# Altium integrated library Integrated_Library1.IntLib: 2483 symbols (part 13 of 13)
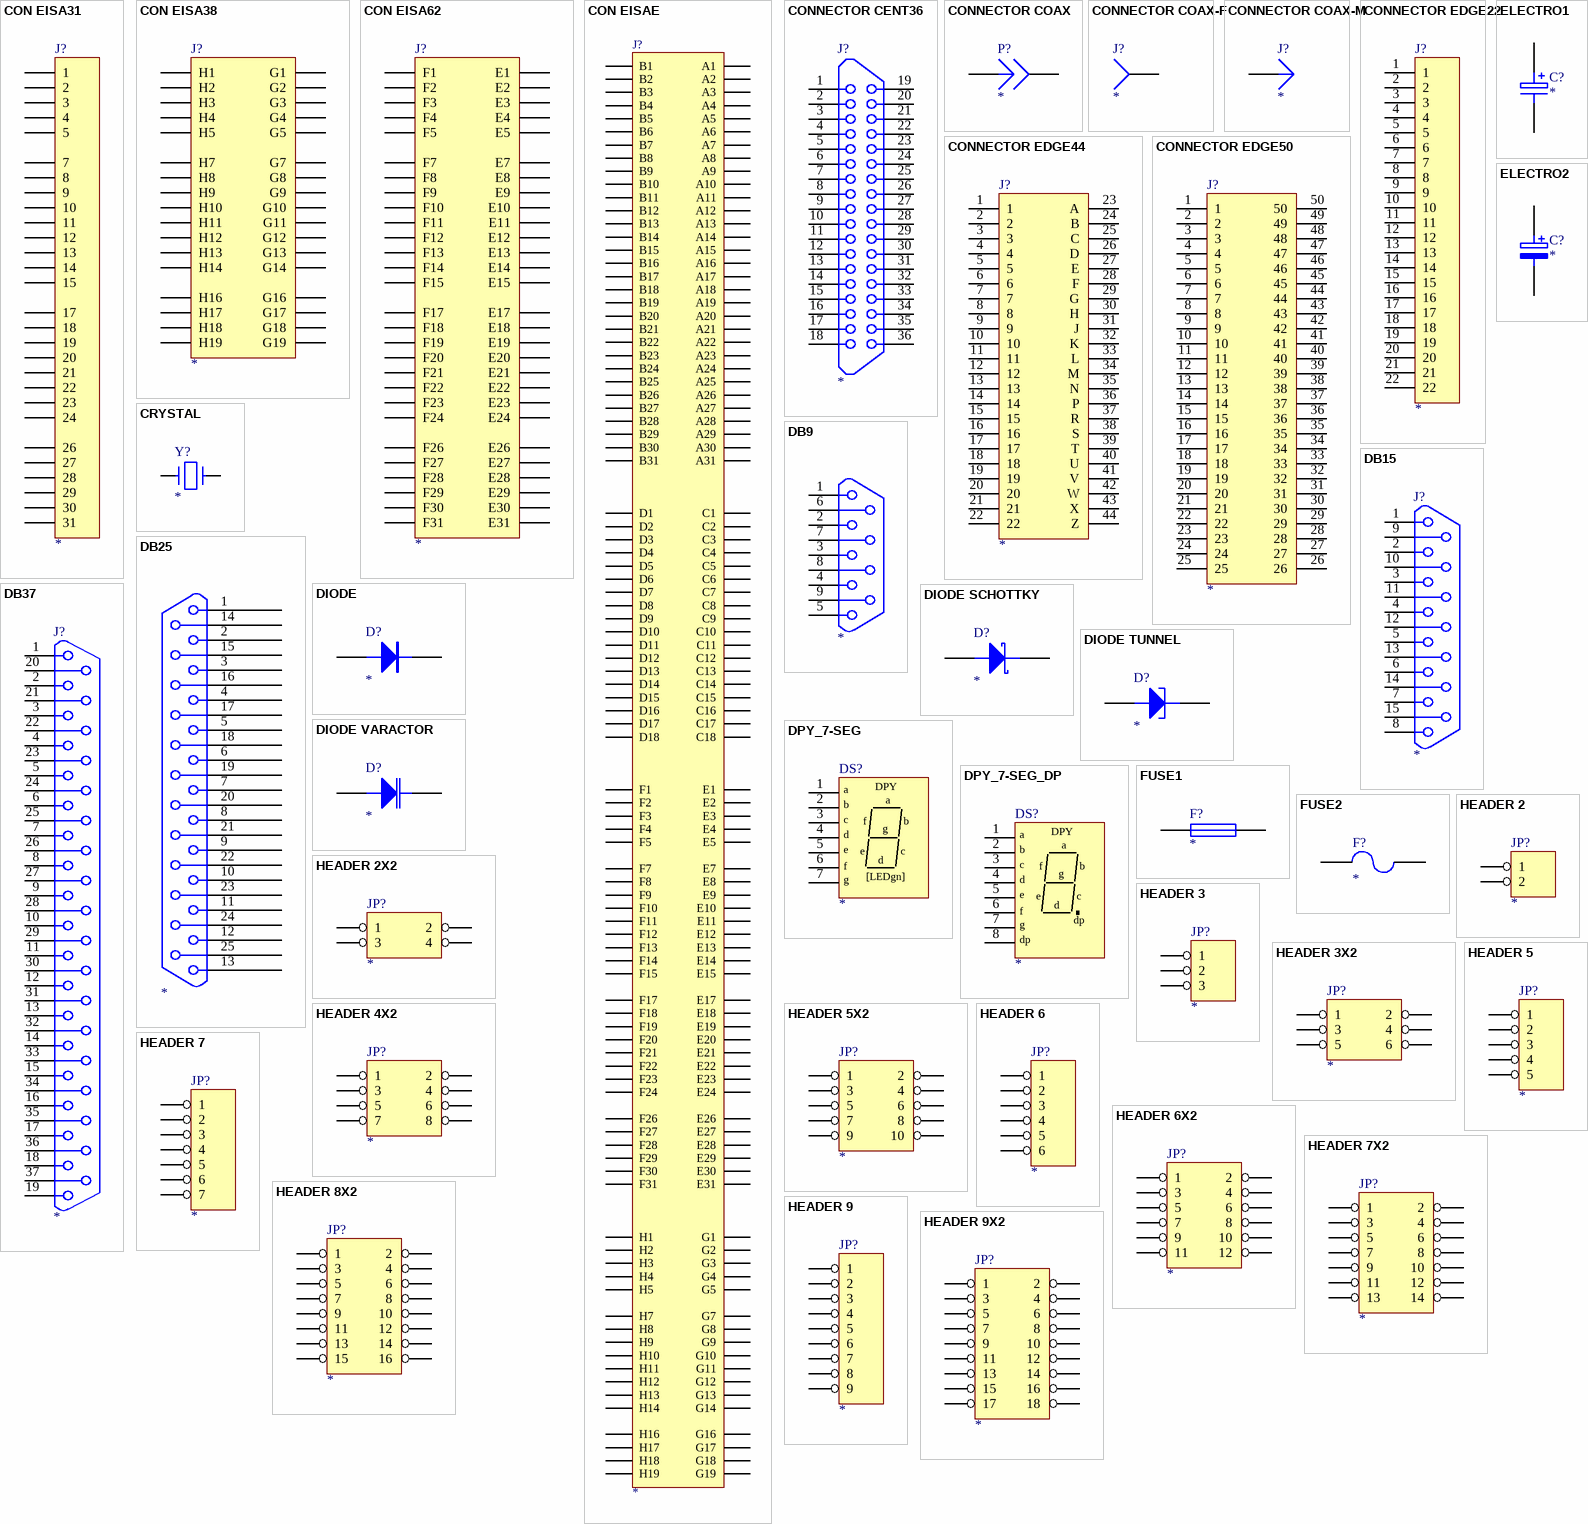
[diagram p120: symbols CON EISA31 to HEADER 9X2]

## CONNECTOR CENT36
designator J?
pins: 1, 2, 3, 4, 5, 6, 7, 8, 9, 10, 11, 12, 13, 14, 15, 16, 17, 18, 19, 20, 21, 22, 23, 24, 25, 26, 27, 28, 29, 30, 31, 32, 33, 34, 35, 36

## CONNECTOR COAX
designator P?
pins: A, B

## CONNECTOR COAX-F
designator J?
pins: A

## CONNECTOR COAX-M
designator J?
pins: A

## CONNECTOR EDGE22
designator J?
pins: 1, 2, 3, 4, 5, 6, 7, 8, 9, 10, 11, 12, 13, 14, 15, 16, 17, 18, 19, 20, 21, 22

## CONNECTOR EDGE44
designator J?
pins: 1, 2, 3, 4, 5, 6, 7, 8, 9, 10, 11, 12, 13, 14, 15, 16, 17, 18, 19, 20, 21, 22, 23 A, 24 B, 25 C, 26 D, 27 E, 28 F, 29 G, 30 H, 31 J, 32 K, 33 L, 34 M, 35 N, 36 P, 37 R, 38 S, 39 T, 40 U, 41 V, 42 W, 43 X, 44 Z

## CONNECTOR EDGE50
designator J?
pins: 1, 2, 3, 4, 5, 6, 7, 8, 9, 10, 11, 12, 13, 14, 15, 16, 17, 18, 19, 20, 21, 22, 23, 24, 25, 26, 27, 28, 29, 30, 31, 32, 33, 34, 35, 36, 37, 38, 39, 40, 41, 42, 43, 44, 45, 46, 47, 48, 49, 50

## CRYSTAL
designator Y?
Crystal
pins: 1, 2

## DB9
designator ?
footprint DB9M
pins: 1, 2, 3, 4, 5, 6, 7, 8, 9

## DB15
designator J?
footprint DB-15/M
pins: 1, 2, 3, 4, 5, 6, 7, 8, 9, 10, 11, 12, 13, 14, 15

## DB25
designator ?
footprint DB-25/M
footprint DB25Z
pins: 1, 2, 3, 4, 5, 6, 7, 8, 9, 10, 11, 12, 13, 14, 15, 16, 17, 18, 19, 20, 21, 22, 23, 24, 25

## DB37
designator J?
footprint DB-37/M
pins: 1, 2, 3, 4, 5, 6, 7, 8, 9, 10, 11, 12, 13, 14, 15, 16, 17, 18, 19, 20, 21, 22, 23, 24, 25, 26, 27, 28, 29, 30, 31, 32, 33, 34, 35, 36, 37

## DIODE
designator D?
Diode
pins: 1 A, 2 K

## DIODE SCHOTTKY
designator D?
Schottky Diode
pins: 1 A, 2 K

## DIODE TUNNEL
designator D?
Diode Tunnel
pins: 1 A, 2 K

## DIODE VARACTOR
designator D?
Varactor Diode
pins: 1 A, 2 K

## DPY_7-SEG
designator DS?
Seven-Segment Display
pins: 1 a, 2 b, 3 c, 4 d, 5 e, 6 f, 7 g
text: DPY; [LEDgn]

## DPY_7-SEG_DP
designator DS?
Seven-Segment Display, Right Hand Decimal
pins: 1 a, 2 b, 3 c, 4 d, 5 e, 6 f, 7 g, 8 dp
text: DPY

## ELECTRO1
designator C?
Electrolytic Capacitor
pins: 1, 2

## ELECTRO2
designator C?
Electrolytic Capacitor
pins: 1, 2

## FUSE1
designator F?
Fuse
pins: 1, 2

## FUSE2
designator F?
Fuse
pins: 1, 2

## HEADER 2
designator JP?
pins: 1, 2

## HEADER 2X2
designator JP?
pins: 1, 2, 3, 4

## HEADER 3
designator JP?
pins: 1, 2, 3

## HEADER 3X2
designator JP?
pins: 1, 2, 3, 4, 5, 6

## HEADER 4X2
designator JP?
pins: 1, 2, 3, 4, 5, 6, 7, 8

## HEADER 5
designator JP?
pins: 1, 2, 3, 4, 5

## HEADER 5X2
designator JP?
pins: 1, 2, 3, 4, 5, 6, 7, 8, 9, 10

## HEADER 6
designator JP?
pins: 1, 2, 3, 4, 5, 6

## HEADER 6X2
designator JP?
pins: 1, 2, 3, 4, 5, 6, 7, 8, 9, 10, 11, 12

## HEADER 7
designator JP?
pins: 1, 2, 3, 4, 5, 6, 7

## HEADER 7X2
designator JP?
pins: 1, 2, 3, 4, 5, 6, 7, 8, 9, 10, 11, 12, 13, 14

## HEADER 8X2
designator JP?
pins: 1, 2, 3, 4, 5, 6, 7, 8, 9, 10, 11, 12, 13, 14, 15, 16

## HEADER 9
designator JP?
pins: 1, 2, 3, 4, 5, 6, 7, 8, 9

## HEADER 9X2
designator JP?
pins: 1, 2, 3, 4, 5, 6, 7, 8, 9, 10, 11, 12, 13, 14, 15, 16, 17, 18

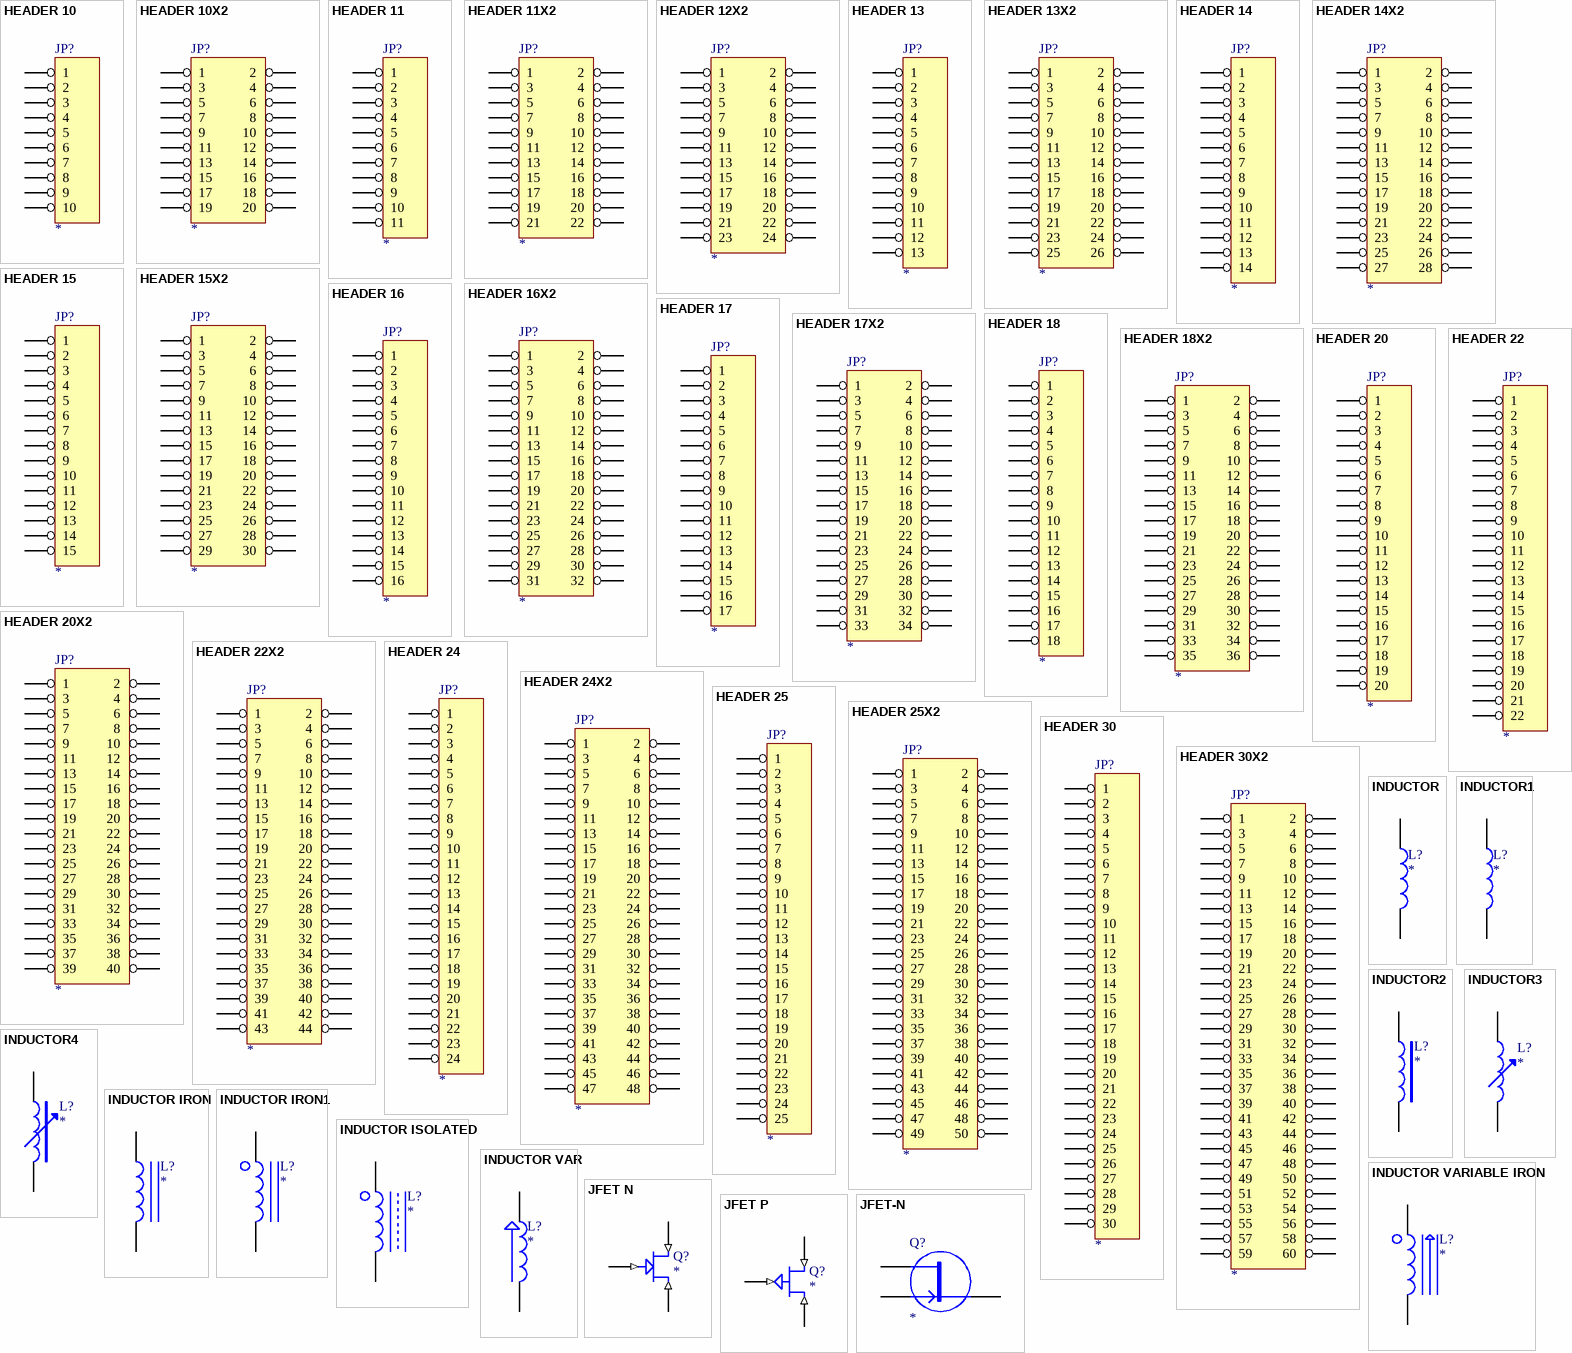
[diagram p100: symbols HEADER 10 to JFET-N]

## HEADER 10
designator JP?
pins: 1, 2, 3, 4, 5, 6, 7, 8, 9, 10

## HEADER 10X2
designator JP?
pins: 1, 2, 3, 4, 5, 6, 7, 8, 9, 10, 11, 12, 13, 14, 15, 16, 17, 18, 19, 20

## HEADER 11
designator JP?
pins: 1, 2, 3, 4, 5, 6, 7, 8, 9, 10, 11

## HEADER 11X2
designator JP?
pins: 1, 2, 3, 4, 5, 6, 7, 8, 9, 10, 11, 12, 13, 14, 15, 16, 17, 18, 19, 20, 21, 22

## HEADER 12X2
designator JP?
pins: 1, 2, 3, 4, 5, 6, 7, 8, 9, 10, 11, 12, 13, 14, 15, 16, 17, 18, 19, 20, 21, 22, 23, 24

## HEADER 13
designator JP?
pins: 1, 2, 3, 4, 5, 6, 7, 8, 9, 10, 11, 12, 13

## HEADER 13X2
designator JP?
pins: 1, 2, 3, 4, 5, 6, 7, 8, 9, 10, 11, 12, 13, 14, 15, 16, 17, 18, 19, 20, 21, 22, 23, 24, 25, 26

## HEADER 14
designator JP?
pins: 1, 2, 3, 4, 5, 6, 7, 8, 9, 10, 11, 12, 13, 14

## HEADER 14X2
designator JP?
pins: 1, 2, 3, 4, 5, 6, 7, 8, 9, 10, 11, 12, 13, 14, 15, 16, 17, 18, 19, 20, 21, 22, 23, 24, 25, 26, 27, 28

## HEADER 15
designator JP?
pins: 1, 2, 3, 4, 5, 6, 7, 8, 9, 10, 11, 12, 13, 14, 15

## HEADER 15X2
designator JP?
pins: 1, 2, 3, 4, 5, 6, 7, 8, 9, 10, 11, 12, 13, 14, 15, 16, 17, 18, 19, 20, 21, 22, 23, 24, 25, 26, 27, 28, 29, 30

## HEADER 16
designator JP?
pins: 1, 2, 3, 4, 5, 6, 7, 8, 9, 10, 11, 12, 13, 14, 15, 16

## HEADER 16X2
designator JP?
pins: 1, 2, 3, 4, 5, 6, 7, 8, 9, 10, 11, 12, 13, 14, 15, 16, 17, 18, 19, 20, 21, 22, 23, 24, 25, 26, 27, 28, 29, 30, 31, 32

## HEADER 17
designator JP?
pins: 1, 2, 3, 4, 5, 6, 7, 8, 9, 10, 11, 12, 13, 14, 15, 16, 17

## HEADER 17X2
designator JP?
pins: 1, 2, 3, 4, 5, 6, 7, 8, 9, 10, 11, 12, 13, 14, 15, 16, 17, 18, 19, 20, 21, 22, 23, 24, 25, 26, 27, 28, 29, 30, 31, 32, 33, 34

## HEADER 18
designator JP?
pins: 1, 2, 3, 4, 5, 6, 7, 8, 9, 10, 11, 12, 13, 14, 15, 16, 17, 18

## HEADER 18X2
designator JP?
pins: 1, 2, 3, 4, 5, 6, 7, 8, 9, 10, 11, 12, 13, 14, 15, 16, 17, 18, 19, 20, 21, 22, 23, 24, 25, 26, 27, 28, 29, 30, 31, 32, 33, 34, 35, 36

## HEADER 20
designator JP?
pins: 1, 2, 3, 4, 5, 6, 7, 8, 9, 10, 11, 12, 13, 14, 15, 16, 17, 18, 19, 20

## HEADER 20X2
designator JP?
pins: 1, 2, 3, 4, 5, 6, 7, 8, 9, 10, 11, 12, 13, 14, 15, 16, 17, 18, 19, 20, 21, 22, 23, 24, 25, 26, 27, 28, 29, 30, 31, 32, 33, 34, 35, 36, 37, 38, 39, 40

## HEADER 22
designator JP?
pins: 1, 2, 3, 4, 5, 6, 7, 8, 9, 10, 11, 12, 13, 14, 15, 16, 17, 18, 19, 20, 21, 22

## HEADER 22X2
designator JP?
pins: 1, 2, 3, 4, 5, 6, 7, 8, 9, 10, 11, 12, 13, 14, 15, 16, 17, 18, 19, 20, 21, 22, 23, 24, 25, 26, 27, 28, 29, 30, 31, 32, 33, 34, 35, 36, 37, 38, 39, 40, 41, 42, 43, 44

## HEADER 24
designator JP?
pins: 1, 2, 3, 4, 5, 6, 7, 8, 9, 10, 11, 12, 13, 14, 15, 16, 17, 18, 19, 20, 21, 22, 23, 24

## HEADER 24X2
designator JP?
pins: 1, 2, 3, 4, 5, 6, 7, 8, 9, 10, 11, 12, 13, 14, 15, 16, 17, 18, 19, 20, 21, 22, 23, 24, 25, 26, 27, 28, 29, 30, 31, 32, 33, 34, 35, 36, 37, 38, 39, 40, 41, 42, 43, 44, 45, 46, 47, 48

## HEADER 25
designator JP?
pins: 1, 2, 3, 4, 5, 6, 7, 8, 9, 10, 11, 12, 13, 14, 15, 16, 17, 18, 19, 20, 21, 22, 23, 24, 25

## HEADER 25X2
designator JP?
pins: 1, 2, 3, 4, 5, 6, 7, 8, 9, 10, 11, 12, 13, 14, 15, 16, 17, 18, 19, 20, 21, 22, 23, 24, 25, 26, 27, 28, 29, 30, 31, 32, 33, 34, 35, 36, 37, 38, 39, 40, 41, 42, 43, 44, 45, 46, 47, 48, 49, 50

## HEADER 30
designator JP?
pins: 1, 2, 3, 4, 5, 6, 7, 8, 9, 10, 11, 12, 13, 14, 15, 16, 17, 18, 19, 20, 21, 22, 23, 24, 25, 26, 27, 28, 29, 30

## HEADER 30X2
designator JP?
pins: 1, 2, 3, 4, 5, 6, 7, 8, 9, 10, 11, 12, 13, 14, 15, 16, 17, 18, 19, 20, 21, 22, 23, 24, 25, 26, 27, 28, 29, 30, 31, 32, 33, 34, 35, 36, 37, 38, 39, 40, 41, 42, 43, 44, 45, 46, 47, 48, 49, 50, 51, 52, 53, 54, 55, 56, 57, 58, 59, 60

## INDUCTOR
designator L?
pins: 1, 2

## INDUCTOR1
designator L?
pins: 1, 2

## INDUCTOR2
designator L?
pins: 1, 2

## INDUCTOR3
designator L?
pins: 1, 2

## INDUCTOR4
designator L?
pins: 1, 2

## INDUCTOR IRON
designator L?
pins: 1, 2

## INDUCTOR IRON1
designator L?
pins: 1, 2

## INDUCTOR ISOLATED
designator L?
pins: 1, 2

## INDUCTOR VAR
designator L?
pins: 1, 2

## INDUCTOR VARIABLE IRON
designator L?
pins: 1, 2

## JFET N
designator Q?
pins: 1 G (in), 2 D (in), 3 S (in)

## JFET P
designator Q?
pins: 1 G (in), 2 D (in), 3 S (in)

## JFET-N
designator Q?
pins: 1 D, 2 G, 3 S

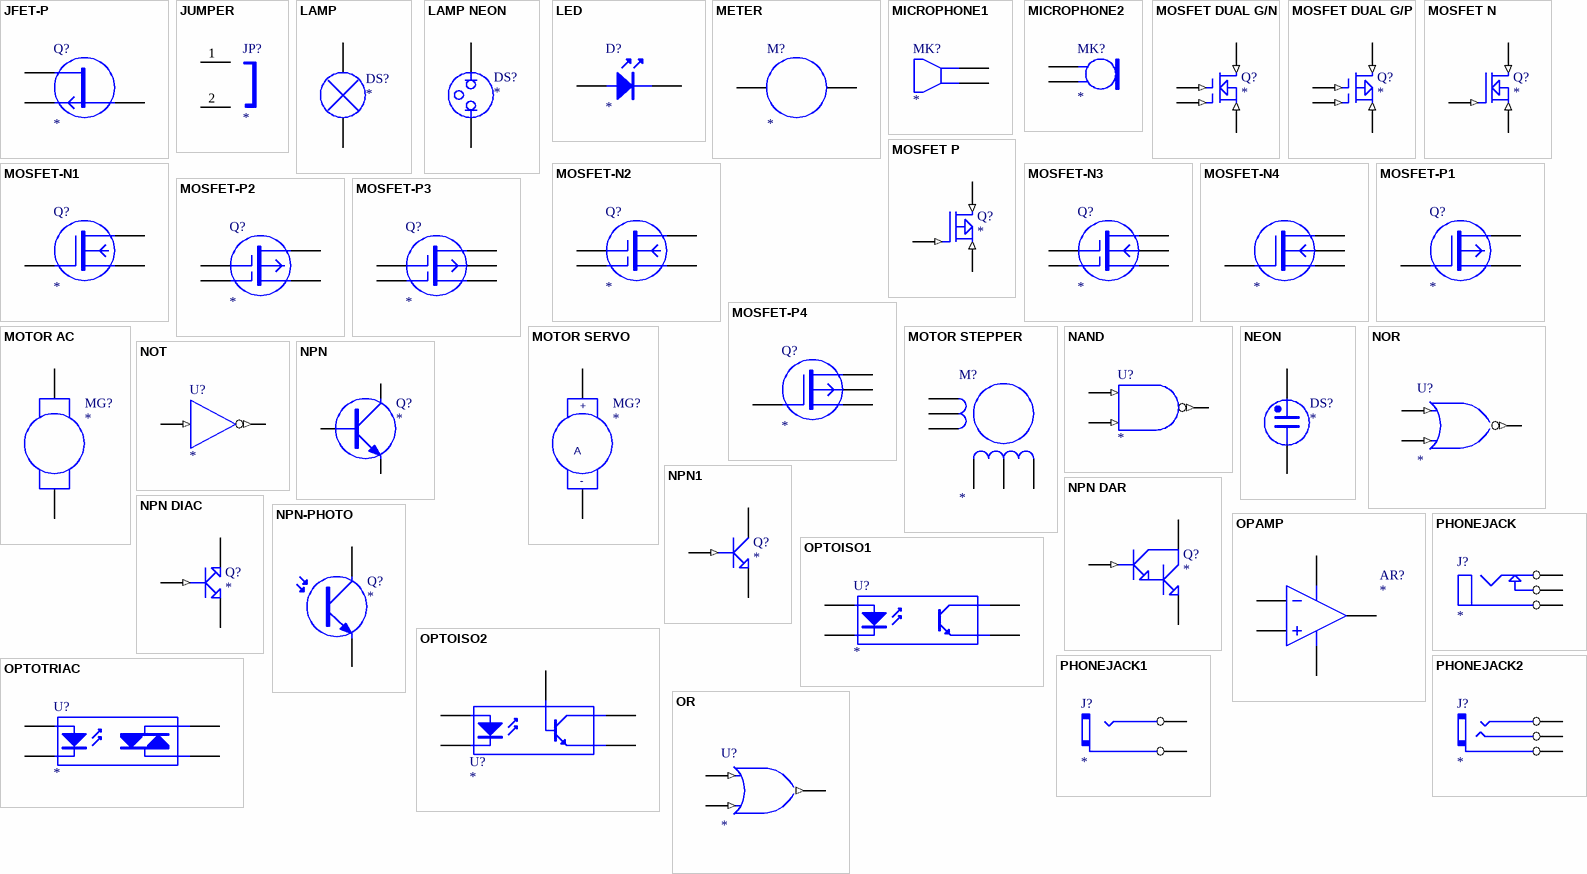
[diagram p101: symbols JFET-P to PHONEJACK2]

## JFET-P
designator Q?
pins: 1 D, 2 G, 3 S

## JUMPER
designator JP?
Jumper
footprint RAD0.2
pins: 1, 2

## LAMP
designator DS?
pins: 1, 2

## LAMP NEON
designator DS?
pins: 1, 2

## LED
designator D?
pins: A 1, K 2

## METER
designator M?
pins: 1, 2

## MICROPHONE1
designator MK?
Microphone
pins: 1, 2

## MICROPHONE2
designator MK?
Microphone
pins: 1, 2

## MOSFET DUAL G/N
designator Q?
pins: 1 G1 (in), 2 G2 (in), 3 D (in), 4 S (in)

## MOSFET DUAL G/P
designator Q?
pins: 1 G1 (in), 2 G2 (in), 3 D (in), 4 S (in)

## MOSFET N
designator Q?
pins: 1 G (in), 2 D (in), 3 S (in)

## MOSFET P
designator Q?
pins: 1 G (in), 2 D (in), 3 S (in)

## MOSFET-N1
designator Q?
pins: 1 G, 2 D, 3 S

## MOSFET-N2
designator Q?
pins: 1 G1, 2 G2, 3 D, 4 S

## MOSFET-N3
designator Q?
pins: 1 G1, 2 G2, 3 D, 4 U, 5 S

## MOSFET-N4
designator ?
pins: 1 G, 2 D, 3 U, 4 S

## MOSFET-P1
designator Q?
pins: 1 G, 2 D, 3 S

## MOSFET-P2
designator Q?
pins: 1 G1, 2 G2, 3 D, 4 S

## MOSFET-P3
designator Q?
pins: 1 G1, 2 G2, 3 D, 4 U, 5 S

## MOSFET-P4
designator Q?
pins: 1 G, 2 D, 3 U, 4 S

## MOTOR AC
designator MG?
pins: 1, 2

## MOTOR SERVO
designator MG?
pins: 1 +, 2 -
text: A

## MOTOR STEPPER
designator M?
pins: 1, 2, 3, 4, 5, 6

## NAND
designator U?
NAND Gate
pins: 1 A (in), 2 B (in), 3 Y (out)

## NEON
designator DS?
pins: 1, 2

## NOR
designator U?
NOR Gate
pins: 1 A (in), 2 B (in), 3 Y (out)

## NOT
designator U?
Inverter
pins: 1 A (in), 2 Y (out)

## NPN
designator Q?
NPN Transistor
pins: 1 E, 2 B, 3 C

## NPN1
designator Q?
NPN Transistor
pins: 1 B (in), 2 C, 3 E

## NPN DAR
designator Q?
NPN Darlington Transistor
pins: 1 B (in), 2 C, 3 E

## NPN DIAC
designator Q?
pins: 1 B (in), 2 C, 3 E

## NPN-PHOTO
designator Q?
pins: 1 C, 2 E

## OPAMP
designator AR?
Operational Amplifier
pins: 1 IN-, 2 IN+, 3 OUT, 4 V+, 5 V-

## OPTOISO1
designator U?
Optoisolator
pins: 1 A, 2 K, 3 C, 4 E

## OPTOISO2
designator U?
Optoisolator
pins: 1 A, 2 K, 3 B, 4 C, 5 E

## OPTOTRIAC
designator U?
pins: 1 A, 2 K, 3 A/K, 4 A/K

## OR
designator U?
OR Gate
pins: 1 A (in), 2 B (in), 3 Y (out)

## PHONEJACK
designator J?
pins: 1 A, 2 B, 3 C

## PHONEJACK1
designator J?
pins: 1 A, 2 B

## PHONEJACK2
designator J?
pins: 1 A, 2 B, 3 C

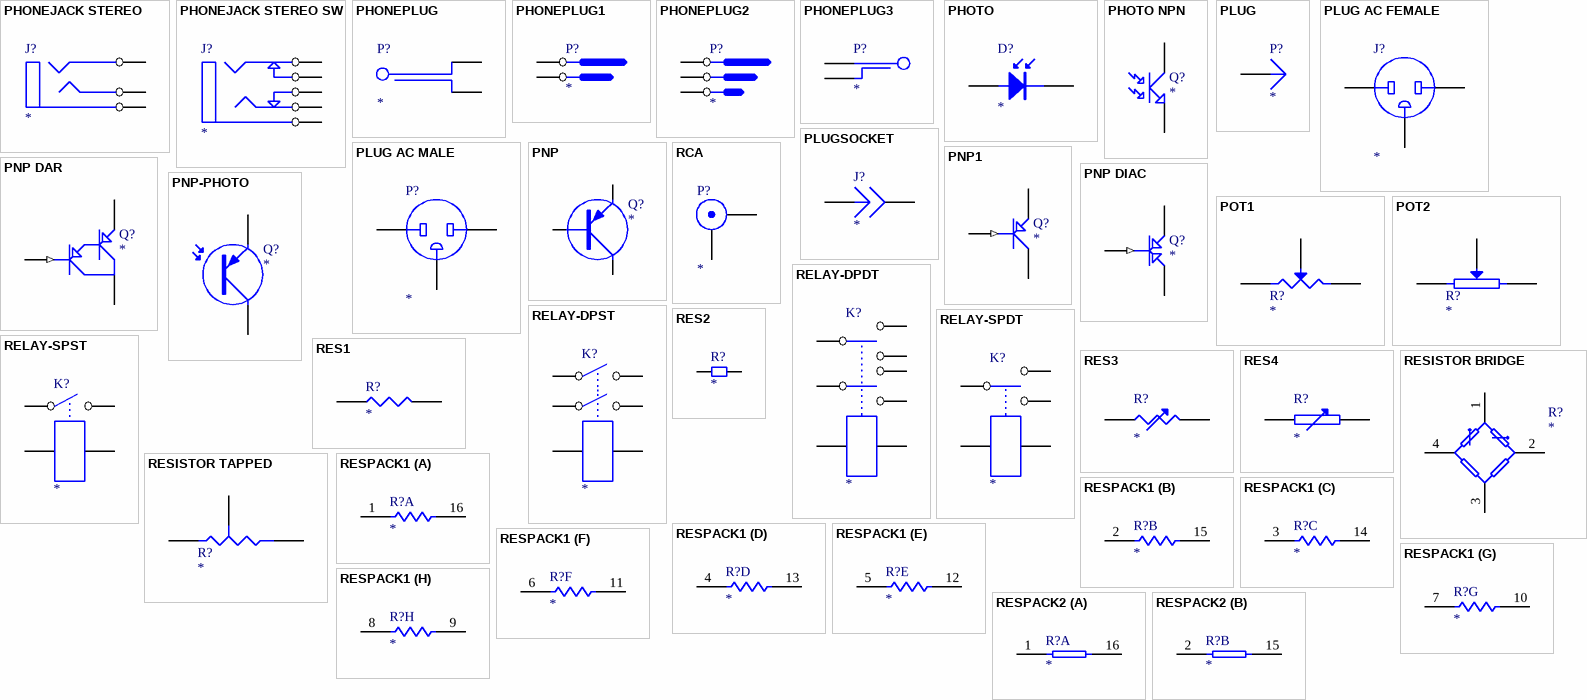
[diagram p102: symbols PHONEJACK STEREO to RESPACK2]

## PHONEJACK STEREO
designator J?
pins: 1 A, 2 B, 3 C

## PHONEJACK STEREO SW
designator J?
pins: 1 A, 2 B, 3 C, 4 D, 5 E

## PHONEPLUG
designator P?
pins: 1 A, 2 B

## PHONEPLUG1
designator P?
pins: 1 A, 2 B

## PHONEPLUG2
designator P?
pins: 1 A, 2 B, 3 C

## PHONEPLUG3
designator P?
pins: 1 A, 2 B

## PHOTO
designator D?
Photosensitive Diode
pins: 1 A, 2 K

## PHOTO NPN
designator Q?
NPN Phototransistor
pins: 1 C, 2 E

## PLUG
designator P?
pins: 1

## PLUG AC FEMALE
designator J?
pins: 1 A, 2 B, 3 GND

## PLUG AC MALE
designator P?
pins: 1 A, 2 B, 3 GND

## PLUGSOCKET
designator J?
pins: 1, 2

## PNP
designator Q?
PNP Transistor
pins: 1 E, 2 B, 3 C

## PNP1
designator Q?
PNP Transistor
pins: 1 B (in), 2 E, 3 C

## PNP DAR
designator Q?
PNP Darlington Transistor
pins: 1 B (in), 3 C, E 2

## PNP DIAC
designator Q?
pins: 1 B (in), 2 E, 3 C

## PNP-PHOTO
designator Q?
pins: C, E

## POT1
designator R?
Potentiometer
pins: 1, 2, 3 W

## POT2
designator R?
Potentiometer
pins: 1, 2, 3 W

## RCA
designator P?
RCA Connector
pins: 1 X, 2 Y

## RELAY-DPDT
designator K?
pins: 1, 2, 3, 4, 5, 6, 7, 8

## RELAY-DPST
designator K?
pins: 1, 2, 3, 4, 5, 6

## RELAY-SPDT
designator K?
pins: 1, 2, 3, 4, 5

## RELAY-SPST
designator K?
pins: 1, 2, 3, 4

## RES1
designator R?
pins: 1, 2

## RES2
designator R?
pins: 1, 2

## RES3
designator R?
pins: 1, 2

## RES4
designator R?
pins: 1, 2

## RESISTOR BRIDGE
designator R?
Resistor Bridge
pins: 1, 2, 3, 4

## RESISTOR TAPPED
designator R?
pins: 1 A, 2 B, 3 TAP

## RESPACK1
designator R?
footprint DIP-16
part A pins: 1, 16
part B pins: 2, 15
part C pins: 3, 14
part D pins: 4, 13
part E pins: 5, 12
part F pins: 6, 11
part G pins: 7, 10
part H pins: 8, 9

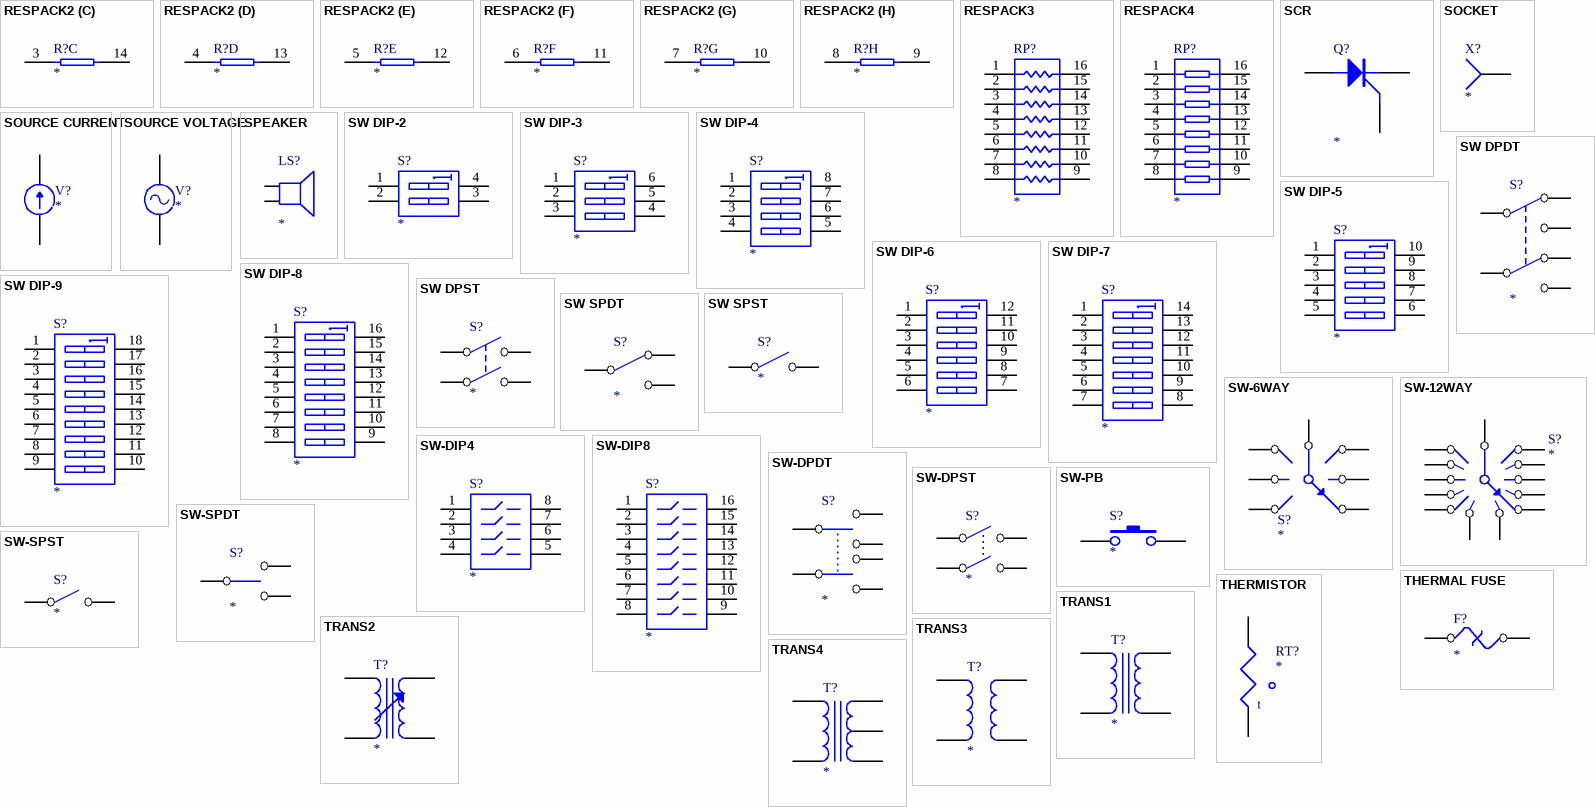
[diagram p103: symbols RESPACK2 to TRANS4]

## RESPACK2
designator R?
footprint DIP-16
part A pins: 1, 16
part B pins: 2, 15
part C pins: 3, 14
part D pins: 4, 13
part E pins: 5, 12
part F pins: 6, 11
part G pins: 7, 10
part H pins: 8, 9

## RESPACK3
designator RP?
footprint DIP-16
pins: 1, 2, 3, 4, 5, 6, 7, 8, 9, 10, 11, 12, 13, 14, 15, 16

## RESPACK4
designator RP?
footprint DIP-16
pins: 1, 2, 3, 4, 5, 6, 7, 8, 9, 10, 11, 12, 13, 14, 15, 16

## SCR
designator Q?
pins: 1 A, 2 K, 3 G

## SOCKET
designator X?
pins: 1

## SOURCE CURRENT
designator V?
pins: 1, 2

## SOURCE VOLTAGE
designator V?
pins: 1, 2

## SPEAKER
designator LS?
pins: 1, 2

## SW DIP-2
designator S?
DIP Switch
pins: 1 A1, 2 A2, 3 B2, 4 B1

## SW DIP-3
designator S?
DIP Switch
pins: 1 A1, 2 A2, 3 A3, 4 B3, 5 B2, 6 B1

## SW DIP-4
designator S?
DIP Switch
pins: 1 A1, 2 A2, 3 A3, 4 A4, 5 B4, 6 B3, 7 B2, 8 B1

## SW DIP-5
designator S?
DIP Switch
pins: 1 A1, 2 A2, 3 A3, 4 A4, 5 A5, 6 B5, 7 B4, 8 B3, 9 B2, 10 B1

## SW DIP-6
designator S?
DIP Switch
pins: 1 A1, 2 A2, 3 A3, 4 A4, 5 A5, 6 A6, 7 B6, 8 B5, 9 B4, 10 B3, 11 B2, 12 B1

## SW DIP-7
designator S?
DIP Switch
pins: 1 A1, 2 A2, 3 A3, 4 A4, 5 A5, 6 A6, 7 A7, 8 B7, 9 B6, 10 B5, 11 B4, 12 B3, 13 B2, 14 B1

## SW DIP-8
designator S?
DIP Switch
pins: 1 A1, 2 A2, 3 A3, 4 A4, 5 A5, 6 A6, 7 A7, 8 A8, 9 B8, 10 B7, 11 B6, 12 B5, 13 B4, 14 B3, 15 B2, 16 B1

## SW DIP-9
designator S?
DIP Switch
pins: 1 A1, 2 A2, 3 A3, 4 A4, 5 A5, 6 A6, 7 A7, 8 A8, 9 A9, 10 B9, 11 B8, 12 B7, 13 B6, 14 B5, 15 B4, 16 B3, 17 B2, 18 B1

## SW DPDT
designator S?
pins: 1 COMMON1, 2 NC1, 3 NO1, 4 NC2, 5 COMMON2, 6 NO2

## SW DPST
designator S?
pins: 1 COMMON1, 2 NO1, 3 COMMON2, 4 NO2

## SW SPDT
designator S?
pins: 1 COMMON, 2 NC, 3 NO

## SW SPST
designator S?
pins: 1 COMMON, 2 NO

## SW-6WAY
designator S?
pins: 1, 2, 3, 4, 5, 6, 7

## SW-12WAY
designator S?
pins: 1, 2, 3, 4, 5, 6, 7, 8, 9, 10, 11, 12, 13

## SW-DIP4
designator S?
footprint DIP-8
pins: 1, 2, 3, 4, 5, 6, 7, 8

## SW-DIP8
designator S?
footprint DIP-16
pins: 1, 2, 3, 4, 5, 6, 7, 8, 9, 10, 11, 12, 13, 14, 15, 16

## SW-DPDT
designator S?
pins: 1, 2, 3, 4, 5, 6

## SW-DPST
designator S?
pins: 1, 2, 3, 4

## SW-PB
designator S?
pins: 1, 2

## SW-SPDT
designator S?
pins: 1, 2, 3

## SW-SPST
designator S?
pins: 1, 2

## THERMAL FUSE
designator F?
pins: 1, 2

## THERMISTOR
designator RT?
pins: 1, 2
text: t

## TRANS1
designator T?
pins: 1, 2, 3, 4

## TRANS2
designator T?
pins: 1, 2, 3, 4

## TRANS3
designator T?
pins: 1, 2, 3, 4

## TRANS4
designator T?
pins: 1, 2, 3, 4, 5

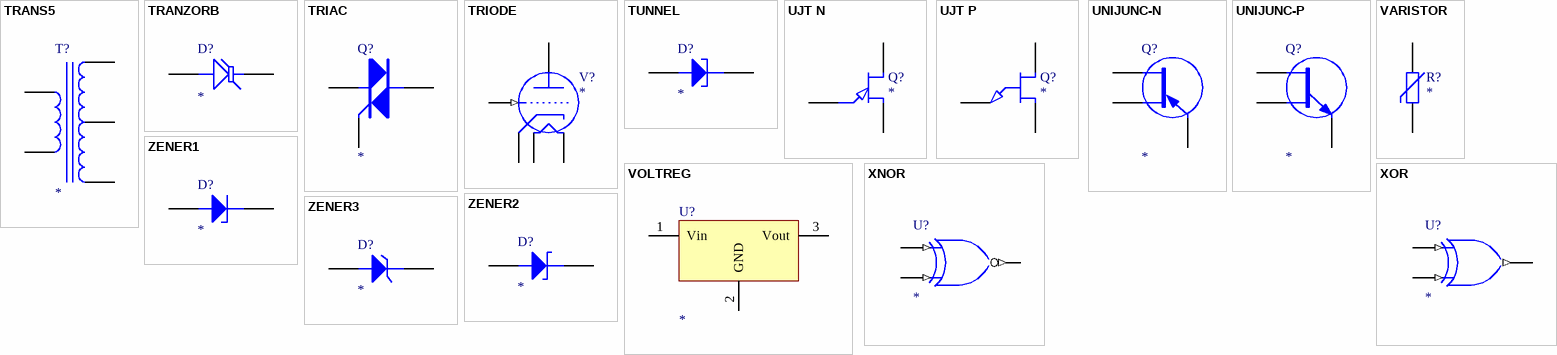
[diagram p104: symbols TRANS5 to ZENER3]

## TRANS5
designator T?
pins: 1, 2, 3, 4, 5

## TRANZORB
designator D?
pins: 1 A, 2 K

## TRIAC
designator Q?
pins: 1 T, 2 T, 3 G

## TRIODE
designator V?
Thyratron
pins: 1 GRID (in), 2 PLATE, 3 CATHODE, 4 FILAMENT1, 5 FILAMENT2

## TUNNEL
designator D?
Tunnel FDiode
pins: 1 A, 2 K

## UJT N
designator Q?
pins: 1 E, 2 B2, 3 B1

## UJT P
designator Q?
pins: 1 E, 2 B1, 3 B2

## UNIJUNC-N
designator Q?
pins: 1 B1, 2 B2, 3 E

## UNIJUNC-P
designator Q?
pins: 1 B1, 2 B2, 3 E

## VARISTOR
designator R?
pins: 1, 2

## VOLTREG
designator U?
footprint TO220H
pins: 1 Vin, 2 GND, 3 Vout

## XNOR
designator U?
XNOR Gate
pins: 1 A (in), 2 B (in), 3 Y (out)

## XOR
designator U?
XOR Gate
pins: 1 A (in), 2 B (in), 3 Y (out)

## ZENER1
designator D?
Zener Diode
pins: 1 A, 2 K

## ZENER2
designator D?
Zener Diode
pins: 1 A, 2 K

## ZENER3
designator D?
Zener Diode
pins: 1 A, 2 K


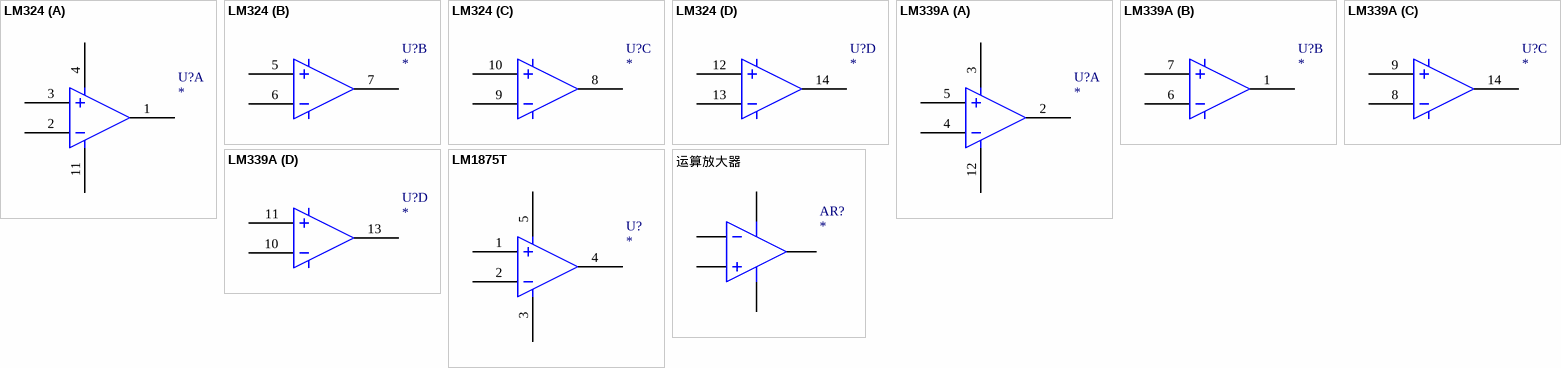
[diagram p105: symbols LM324 to 运算放大器]

## LM324
designator U?
footprint DIP-14
part A pins: 1, 2, 3, 4, 11
part B pins: 5, 6, 7
part C pins: 8, 9, 10
part D pins: 12, 13, 14

## LM339A
designator U?
footprint DIP-14
part A pins: 2, 3, 4, 5, 12
part B pins: 1, 6, 7
part C pins: 8, 9, 14
part D pins: 10, 11, 13

## LM1875T
designator U?
footprint TO-220
pins: 1, 2, 3, 4, 5

## 运算放大器
designator AR?
Operational Amplifier
pins: 1 IN-, 2 IN+, 3 OUT, 4 V+, 5 V-


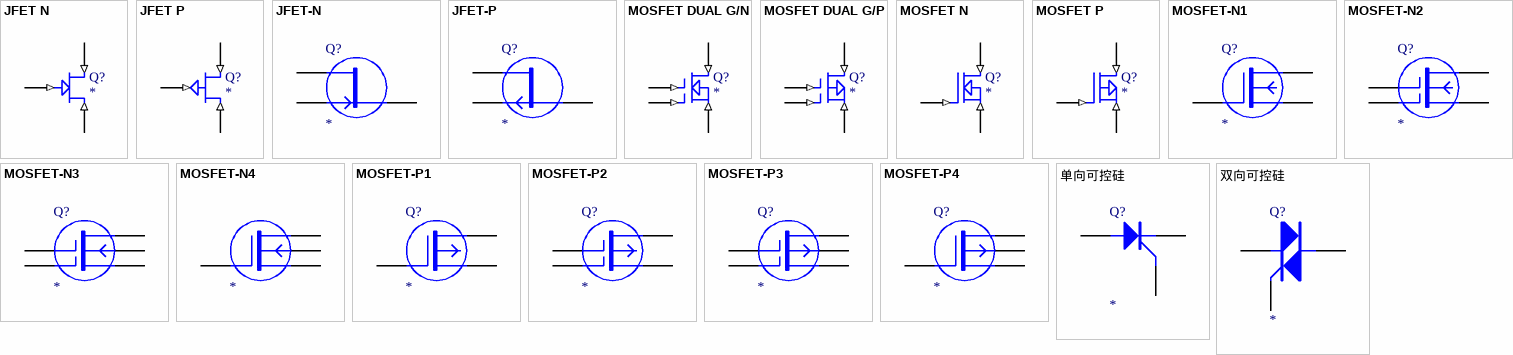
[diagram p106: symbols JFET N to 双向可控硅]

## JFET N
designator Q?
pins: 1 G (in), 2 D (in), 3 S (in)

## JFET P
designator Q?
pins: 1 G (in), 2 D (in), 3 S (in)

## JFET-N
designator Q?
pins: 1 D, 2 G, 3 S

## JFET-P
designator Q?
pins: 1 D, 2 G, 3 S

## MOSFET DUAL G/N
designator Q?
pins: 1 G1 (in), 2 G2 (in), 3 D (in), 4 S (in)

## MOSFET DUAL G/P
designator Q?
pins: 1 G1 (in), 2 G2 (in), 3 D (in), 4 S (in)

## MOSFET N
designator Q?
pins: 1 G (in), 2 D (in), 3 S (in)

## MOSFET P
designator Q?
pins: 1 G (in), 2 D (in), 3 S (in)

## MOSFET-N1
designator Q?
pins: 1 G, 2 D, 3 S

## MOSFET-N2
designator Q?
pins: 1 G1, 2 G2, 3 D, 4 S

## MOSFET-N3
designator Q?
pins: 1 G1, 2 G2, 3 D, 4 U, 5 S

## MOSFET-N4
designator ?
pins: 1 G, 2 D, 3 U, 4 S

## MOSFET-P1
designator Q?
pins: 1 G, 2 D, 3 S

## MOSFET-P2
designator Q?
pins: 1 G1, 2 G2, 3 D, 4 S

## MOSFET-P3
designator Q?
pins: 1 G1, 2 G2, 3 D, 4 U, 5 S

## MOSFET-P4
designator Q?
pins: 1 G, 2 D, 3 U, 4 S

## 单向可控硅
designator Q?
pins: 1 A, 2 K, 3 G

## 双向可控硅
designator Q?
pins: 1 T, 2 T, 3 G


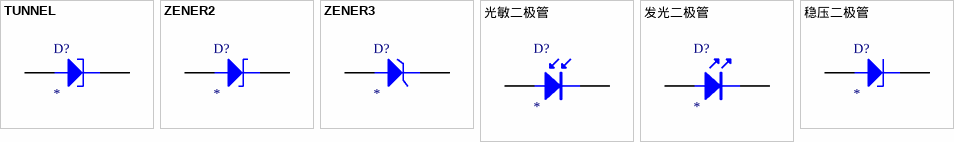
[diagram p107: symbols TUNNEL to 稳压二极管]

## TUNNEL
designator D?
Tunnel FDiode
pins: 1 A, 2 K

## ZENER2
designator D?
Zener Diode
pins: 1 A, 2 K

## ZENER3
designator D?
Zener Diode
pins: 1 A, 2 K

## 光敏二极管
designator D?
Photosensitive Diode
pins: 1 A, 2 K

## 发光二极管
designator D?
footprint DIODE0.4A
pins: A 1, K 2

## 稳压二极管
designator D?
Zener Diode
pins: 1 A, 2 K


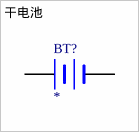
[diagram p108: symbol 干电池]

## 干电池
designator BT?
Battery
pins: 1 +, 2 -